# EAGLE library part TYPE-C16P(073) (library VNA)
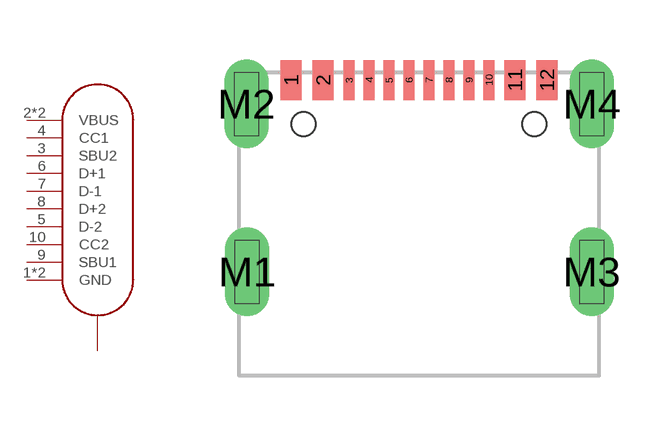
[diagram p11: symbol with the pads of TYPE-C16P; footprint TYPE-C16P]

Designator prefix J

## TYPE-C16P(073)  [TYPE-C16P]
1  GND
2  VBUS
3  SBU2
4  CC1
5  D-2
6  D+1
7  D-1
8  D+2
9  SBU1
10  CC2
11  VBUS
12  GND
M1  CASE
M2  CASE
M3  CASE
M4  CASE

## Footprint TYPE-C16P (pad centres in mm)
smd 0.52 x 1: 1 -3.2,-0.5; 2 -2.4,-0.5; 11 2.4,-0.5; 12 3.2,-0.5
smd 0.27 x 1: 3 -1.75,-0.5; 4 -1.25,-0.5; 5 -0.75,-0.5; 6 -0.25,-0.5; 7 0.25,-0.5; 8 0.75,-0.5; 9 1.25,-0.5; 10 1.75,-0.5
drill 0.6 pad 1.1 long: M1 -4.3,-5.3; M2 -4.32,-1.1; M3 4.32,-5.3; M4 4.32,-1.1
hole 0.6 at -2.89,-1.6
hole 0.6 at 2.89,-1.6